# Altium footprint library TEFT4300.PcbLib: 1 footprints
Each footprint in its own frame and in the unit in brackets; x right, y up, seen from the top. Pads: shape width x height; smd on the part's side, far side on the other; paste and mask are expansions set on the pad; w line width, h text height; cw(c..) or ccw(c..) is an arc to the next point about the centre after c.
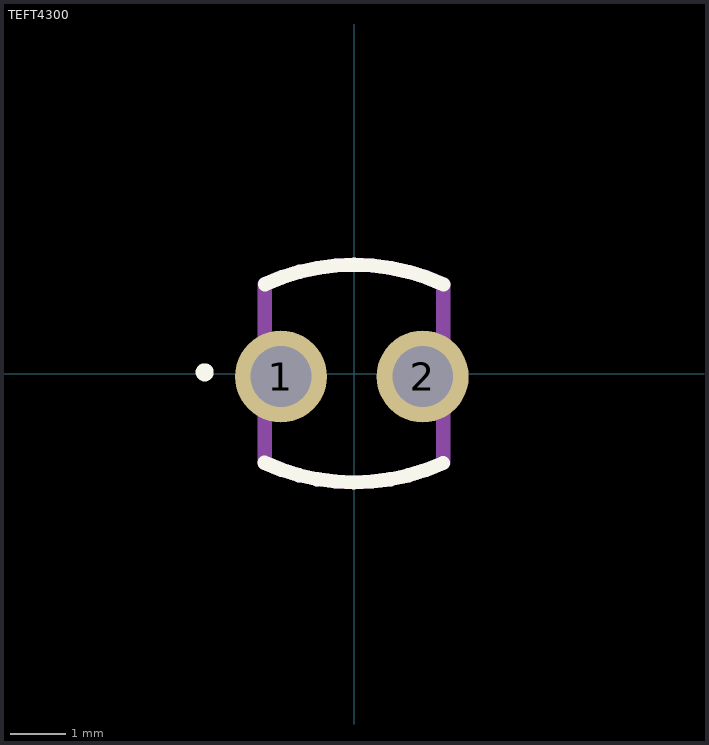
[diagram p0: the footprint, top view; thin cyan lines are the x and y axes]

## TEFT4300 [mm]
pads (2):
  round 1.65 hole 1.09: 1(-1.309,-0.054) 2(1.231,-0.054)
L26-Silk Screen Top (Multiple PADS layers...):
  circle w0.254: c-2.676,0.022 r0.034
  lines w0.254: -1.603,-1.599 ccw(c0,1.871) 1.597,-1.601 ; -1.597,1.601 cw(c0,-1.871) 1.603,1.599
L15 (Multiple PADS layers...):
  lines w0.254: -1.603,-1.598 ccw(c0,1.872) 1.597,-1.601 ; -1.6,-1.6 -1.6,1.6 cw(c0,-1.88) 1.601,1.6 1.6,-1.6